# EAGLE library part ESP32_CODEC_BOARD (library ESP32_codec_board)
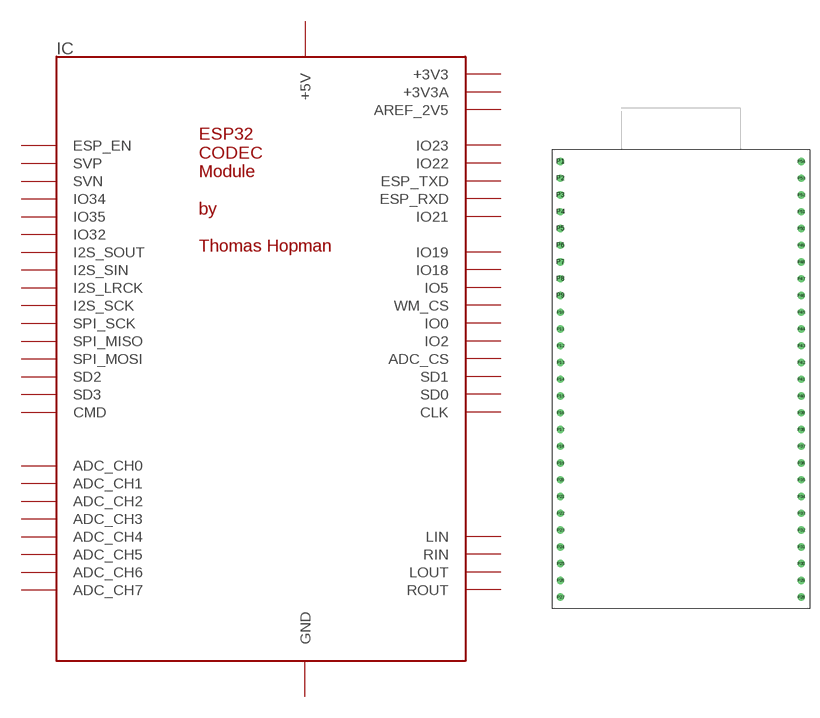
[diagram p0: symbol with the pads of ESP32_CODEC_BOARD; footprint ESP32_CODEC_BOARD]

Designator prefix IC

## ESP32_CODEC_BOARD  [ESP32_CODEC_BOARD]
P1  +3V3
P2  ESP_EN
P3  SVP
P4  SVN
P5  IO34
P6  IO35
P7  IO32
P8  I2S_SOUT
P9  I2S_SIN
P10  I2S_LRCK
P11  I2S_SCK
P12  SPI_SCK
P13  SPI_MISO
P14  SPI_MOSI
P15  SD2
P16  SD3
P17  CMD
P18  +5V
P19  AREF_2V5
P20  ADC_CH0
P21  ADC_CH1
P22  ADC_CH2
P23  ADC_CH3
P24  ADC_CH4
P25  ADC_CH5
P26  ADC_CH6
P27  ADC_CH7
P28  ROUT
P29  LOUT
P30  RIN
P31  LIN
P32  GND
P33  GND
P34  GND
P35  GND
P36  +3V3A
P37  GND
P38  CLK
P39  SD0
P40  SD1
P41  ADC_CS
P42  IO2
P43  IO0
P44  WM_CS
P45  IO5
P46  IO18
P47  IO19
P48  GND
P49  IO21
P50  ESP_RXD
P51  ESP_TXD
P52  IO22
P53  IO23
P54  GND

## Footprint ESP32_CODEC_BOARD (pad centres in mm)
drill 0.6: P1 -18.255,33.02; P2 -18.255,30.48; P3 -18.255,27.94; P4 -18.255,25.4; P5 -18.255,22.86; P6 -18.255,20.32; P7 -18.255,17.78; P8 -18.255,15.24; P9 -18.255,12.7; P10 -18.255,10.16; P11 -18.255,7.62; P12 -18.255,5.08; P13 -18.255,2.54; P14 -18.255,0; P15 -18.255,-2.54; P16 -18.255,-5.08; P17 -18.255,-7.62; P18 -18.255,-10.16; P19 -18.255,-12.7; P20 -18.255,-15.24; P21 -18.255,-17.78; P22 -18.255,-20.32; P23 -18.255,-22.86; P24 -18.255,-25.4; P25 -18.255,-27.94; P26 -18.255,-30.48; P27 -18.255,-33.02; P28 18.255,-33.02; P29 18.255,-30.48; P30 18.255,-27.94; P31 18.255,-25.4; P32 18.255,-22.86; P33 18.255,-20.32; P34 18.255,-17.78; P35 18.255,-15.24; P36 18.255,-12.7; P37 18.255,-10.16; P38 18.255,-7.62; P39 18.255,-5.08; P40 18.255,-2.54; P41 18.255,0; P42 18.255,2.54; P43 18.255,5.08; P44 18.255,7.62; P45 18.255,10.16; P46 18.255,12.7; P47 18.255,15.24; P48 18.255,17.78; P49 18.255,20.32; P50 18.255,22.86; P51 18.255,25.4; P52 18.255,27.94; P53 18.255,30.48; P54 18.255,33.02